# EAGLE library part PIC18F26K80 (library Components Library)
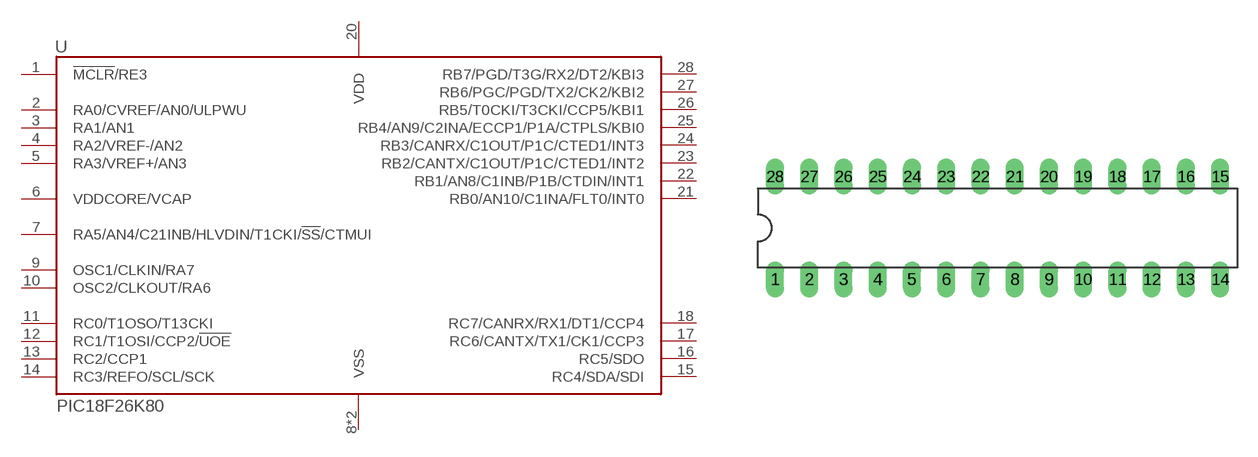
[diagram p6: symbol with the pads of DIL28/3; footprint DIL28/3]

Designator prefix U

## PIC18F26K80I/SP  [DIL28/3]
1  !MCLR!/RE3  in
2  RA0/CVREF/AN0/ULPWU
3  RA1/AN1
4  RA2/VREF-/AN2
5  RA3/VREF+/AN3
6  VDDCORE/VCAP
7  RA5/AN4/C21INB/HLVDIN/T1CKI/!SS!/CTMUI
8  VSS  pwr
9  OSC1/CLKIN/RA7
10  OSC2/CLKOUT/RA6
11  RC0/T1OSO/T13CKI
12  RC1/T1OSI/CCP2/!UOE!
13  RC2/CCP1
14  RC3/REFO/SCL/SCK
15  RC4/SDA/SDI
16  RC5/SDO
17  RC6/CANTX/TX1/CK1/CCP3
18  RC7/CANRX/RX1/DT1/CCP4
19  VSS  pwr
20  VDD  pwr
21  RB0/AN10/C1INA/FLT0/INT0
22  RB1/AN8/C1INB/P1B/CTDIN/INT1
23  RB2/CANTX/C1OUT/P1C/CTED1/INT2
24  RB3/CANRX/C1OUT/P1C/CTED1/INT3
25  RB4/AN9/C2INA/ECCP1/P1A/CTPLS/KBI0
26  RB5/T0CKI/T3CKI/CCP5/KBI1
27  RB6/PGC/PGD/TX2/CK2/KBI2
28  RB7/PGD/T3G/RX2/DT2/KBI3

## Footprint DIL28/3 (pad centres in mm)
drill 0.813 long: 1 -16.51,-3.81; 2 -13.97,-3.81; 3 -11.43,-3.81; 4 -8.89,-3.81; 5 -6.35,-3.81; 6 -3.81,-3.81; 7 -1.27,-3.81; 8 1.27,-3.81; 9 3.81,-3.81; 10 6.35,-3.81; 11 8.89,-3.81; 12 11.43,-3.81; 13 13.97,-3.81; 14 16.51,-3.81; 15 16.51,3.81; 16 13.97,3.81; 17 11.43,3.81; 18 8.89,3.81; 19 6.35,3.81; 20 3.81,3.81; 21 1.27,3.81; 22 -1.27,3.81; 23 -3.81,3.81; 24 -6.35,3.81; 25 -8.89,3.81; 26 -11.43,3.81; 27 -13.97,3.81; 28 -16.51,3.81